# EAGLE library part 37212-62M3-003SC (library C8051F300)
37212-62M3-003SC mini-clump board mount socket
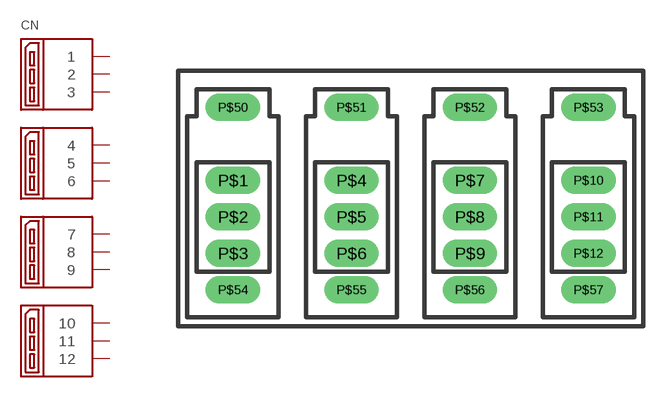
[diagram p5: symbol with the pads of 37212-62M3-003SC; footprint 37212-62M3-003SC]

Designator prefix CN

## 37212-62M3-003SC  [37212-62M3-003SC]
P$1  1  pas
P$2  2  pas
P$3  3  pas
P$4  4  pas
P$5  5  pas
P$6  6  pas
P$7  7  pas
P$8  8  pas
P$9  9  pas
P$10  10  pas
P$11  11  pas
P$12  12  pas
P$50  P$1  nc
P$51  P$2  nc
P$52  P$3  nc
P$53  P$4  nc
P$54  P$5  nc
P$55  P$6  nc
P$56  P$7  nc
P$57  P$8  nc

## Footprint 37212-62M3-003SC (pad centres in mm)
drill 0.991 pad 1.016 long: P$1 -9.75,2; P$2 -9.75,0; P$3 -9.75,-2; P$4 -3.25,2; P$5 -3.25,0; P$6 -3.25,-2; P$7 3.25,2; P$8 3.25,0; P$9 3.25,-2; P$10 9.75,2; P$11 9.75,0; P$12 9.75,-2; P$50 -9.75,6; P$51 -3.25,6; P$52 3.25,6; P$53 9.75,6; P$54 -9.75,-4; P$55 -3.25,-4; P$56 3.25,-4; P$57 9.75,-4